# Altium schematic symbol library LQM21PN4R7MGRD.SchLib: 1 symbol
Pins are listed as number, name and electrical type; pins without a type are passive.

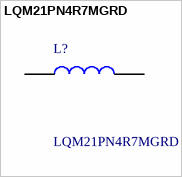
[diagram p0: symbol LQM21PN4R7MGRD]

## LQM21PN4R7MGRD
designator L?
LQM21PN_GR Series Inductor 4.7uH +/-20% 0805 (2012); Manufacturer_Name: Murata Electronics; Geometry.Height: 1mm; Manufacturer_Part_Number: LQM21PN4R7MGRD; Mouser Part Number: 81-LQM21PN4R7MGRD; Mouser Price/Stock: https://www.mouser.co.uk/ProductDetail/Murata-Electronics/LQM21PN4R7MGRD?qs=YinlzBdtFMg1XfDq8VsadA%3D%3D; Arrow Part Number: LQM21PN4R7MGRD; Arrow Price/Stock: https://www.arrow.com/en/products/lqm21pn4r7mgrd/murata-manufacturing?region=nac; Datasheet Link: https://psearch.en.murata.com/inductor/product/LQM21PN4R7MGR%23.html
footprint LQM21PHR47NG0D
pins: 1, 2